# Altium footprint library MolexMiniFitJr_3POS_RA_TH.PcbLib: 1 footprints
Each footprint in its own frame and in the unit in brackets; x right, y up, seen from the top. Pads: shape width x height; smd on the part's side, far side on the other; paste and mask are expansions set on the pad; w line width, h text height; cw(c..) or ccw(c..) is an arc to the next point about the centre after c.
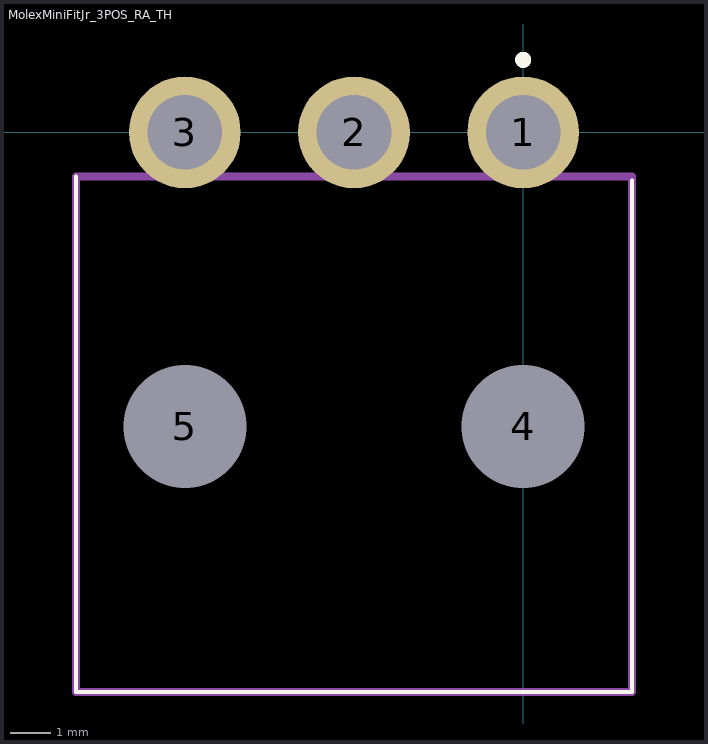
[diagram p0: the footprint, top view; thin cyan lines are the x and y axes]

## MolexMiniFitJr_3POS_RA_TH [mm]
pads (5):
  round 2.775 hole 1.85: 1(0,0) 2(-4.2,0) 3(-8.4,0)
  round 1.525 hole 3.05 unplated: 4(0,-7.3) 5(-8.4,-7.3)
Top Overlay:
  lines w0.1: -11.1,-1.1 -11.1,-13.9 2.7,-13.9 2.7,-1.2
  lines w0.2: -0.1,1.8 cw(c0,1.8) 0.1,1.8 cw(c0,1.8) -0.1,1.8
Mechanical 15:
  lines w0.2: -11.1,-13.9 2.7,-13.9 2.7,-1.1 -11.1,-1.1 -11.1,-13.9
3D body "039303036.stp": height 7.21, standoff -3.49, extent -11.1,-13.425 2.7,0.625